# EAGLE library part TPS54550 (library m-pad-2.1)
Ti's TPS54550 4.5-V TO 20-V INPUT, 6-A OUTPUT SYNCHRONOUS PWM SWITCHER WITH INTEGRATED FET (SWIFT) Description: The TPS54550 is a medium output current synchronous buck PWM converter with an integrated high side MOSFET and a gate driver for an low side external MOSFET. Features include a high performance voltage error amplifier that enables maximum performance under transient conditions and flexibility in choosing the output filter inductors and capacitors. The TPS54550 has an under-voltage-lockout circuit to prevent start-up until the input voltage reaches 4.5V; a slow-start circuit to limit in-rush currents; and a power good output to indicate valid output conditions. The synchronization feature is configurable as either an input or an output for easy 180° out of phase synchronization. The TPS54550 device is available in a thermally enhanced 16-pin TSSOP (PWP) PowerPAD package. TI provides evaluation modules and the SWIFT? Designer software tool to aid in quickly achieving high-performance power supply designs to meet aggressive equipment development cycles. Features: 40 mW MOSFET Switch for High Efficiency at 6-A (7.5 Peak) Output Current Uses External Lowside MOSFET Output Voltage Adjustable Down to 0.891 V With 1% Accuracy Synchronizes to External Clock 180° Out of Phase Synchronization Wide PWM Frequency Fixed 250 kHz, 500 kHz or Adjustable 250 kHz to 700 kHz Adjustable Slow Start Adjustable Undervoltage Lockout Load Protected by Peak Current Limit and Thermal Shutdown 16-Pin TSSOP PowerPAD Package SWIFT Documentation Application Notes, and Design Software: www.ti.com/swift Applications: Industrial and Commercial Low Power Systems LCD Monitors and TVs Computer Peripherals Point of Load Regulation for High Performance DSPs, FPGAs, ASICs and Microprocessors Please send any comments to: messi@users.sourceforge.net
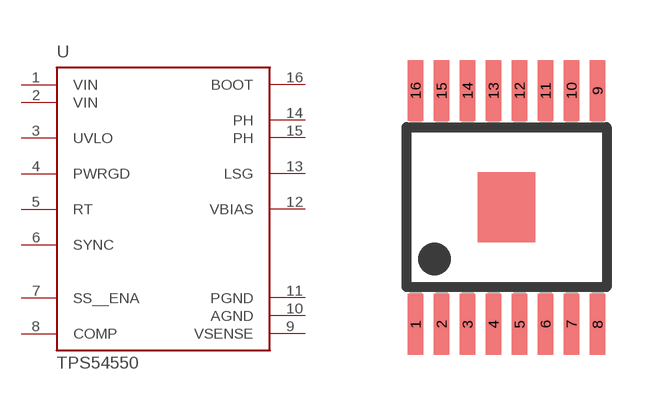
[diagram p184: symbol with the pads of PWP-16; footprint PWP-16]

Designator prefix U

## TPS54550  [PWP-16]
1  VIN  pwr
2  VIN  pwr
3  UVLO  in
4  PWRGD  out
5  RT  in
6  SYNC
7  SS__ENA  in
8  COMP  out
9  VSENSE  in
10  AGND  pwr
11  PGND  pwr
12  VBIAS  pas
13  LSG  out
14  PH  out
15  PH  out
16  BOOT  pas

## Footprint PWP-16 (pad centres in mm)
TI TPS54350 buck stepdown 3Amp switcher 16 pin TSSOP PowerPAD package (central pad is ground)
smd 0.381 x 1.524: 1 -2.275,-2.925; 2 -1.625,-2.925; 3 -0.975,-2.925; 4 -0.325,-2.925; 5 0.325,-2.925; 6 0.975,-2.925; 7 1.625,-2.925; 8 2.275,-2.925; 9 2.275,2.917; 10 1.625,2.917; 11 0.975,2.917; 12 0.325,2.917; 13 -0.325,2.917; 14 -0.975,2.917; 15 -1.625,2.917; 16 -2.275,2.917